# Altium integrated library 1206B224K251NT.IntLib: 1 symbol
Pins are listed as number, name and electrical type; pins without a type are passive.

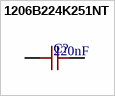
[diagram p0: symbol 1206B224K251NT]

## 1206B224K251NT
designator C?  value 220nF  (hidden comment: 1206B224K251NT)
Multilayer Ceramic Capacitors MLCC - SMD/SMT. 220nF 250V X7R +/-10% 1206 Multilayer Ceramic Capacitors MLCC - SMD/SMT ROHS; Manufacturer: FH (Guangdong Fenghua Advanced Tech); Component Type: Capacitors; Design Item ID: 1206B224K251NT; JLCPCB Part #: C1322383; Manufacturer Part Number: 1206B224K251NT
footprint 1206B224K251NT (C1206)
pins: 1, 2